# Altium schematic symbol library Control_Board_Model.SCHLIB: 226 symbols (part 4 of 7)
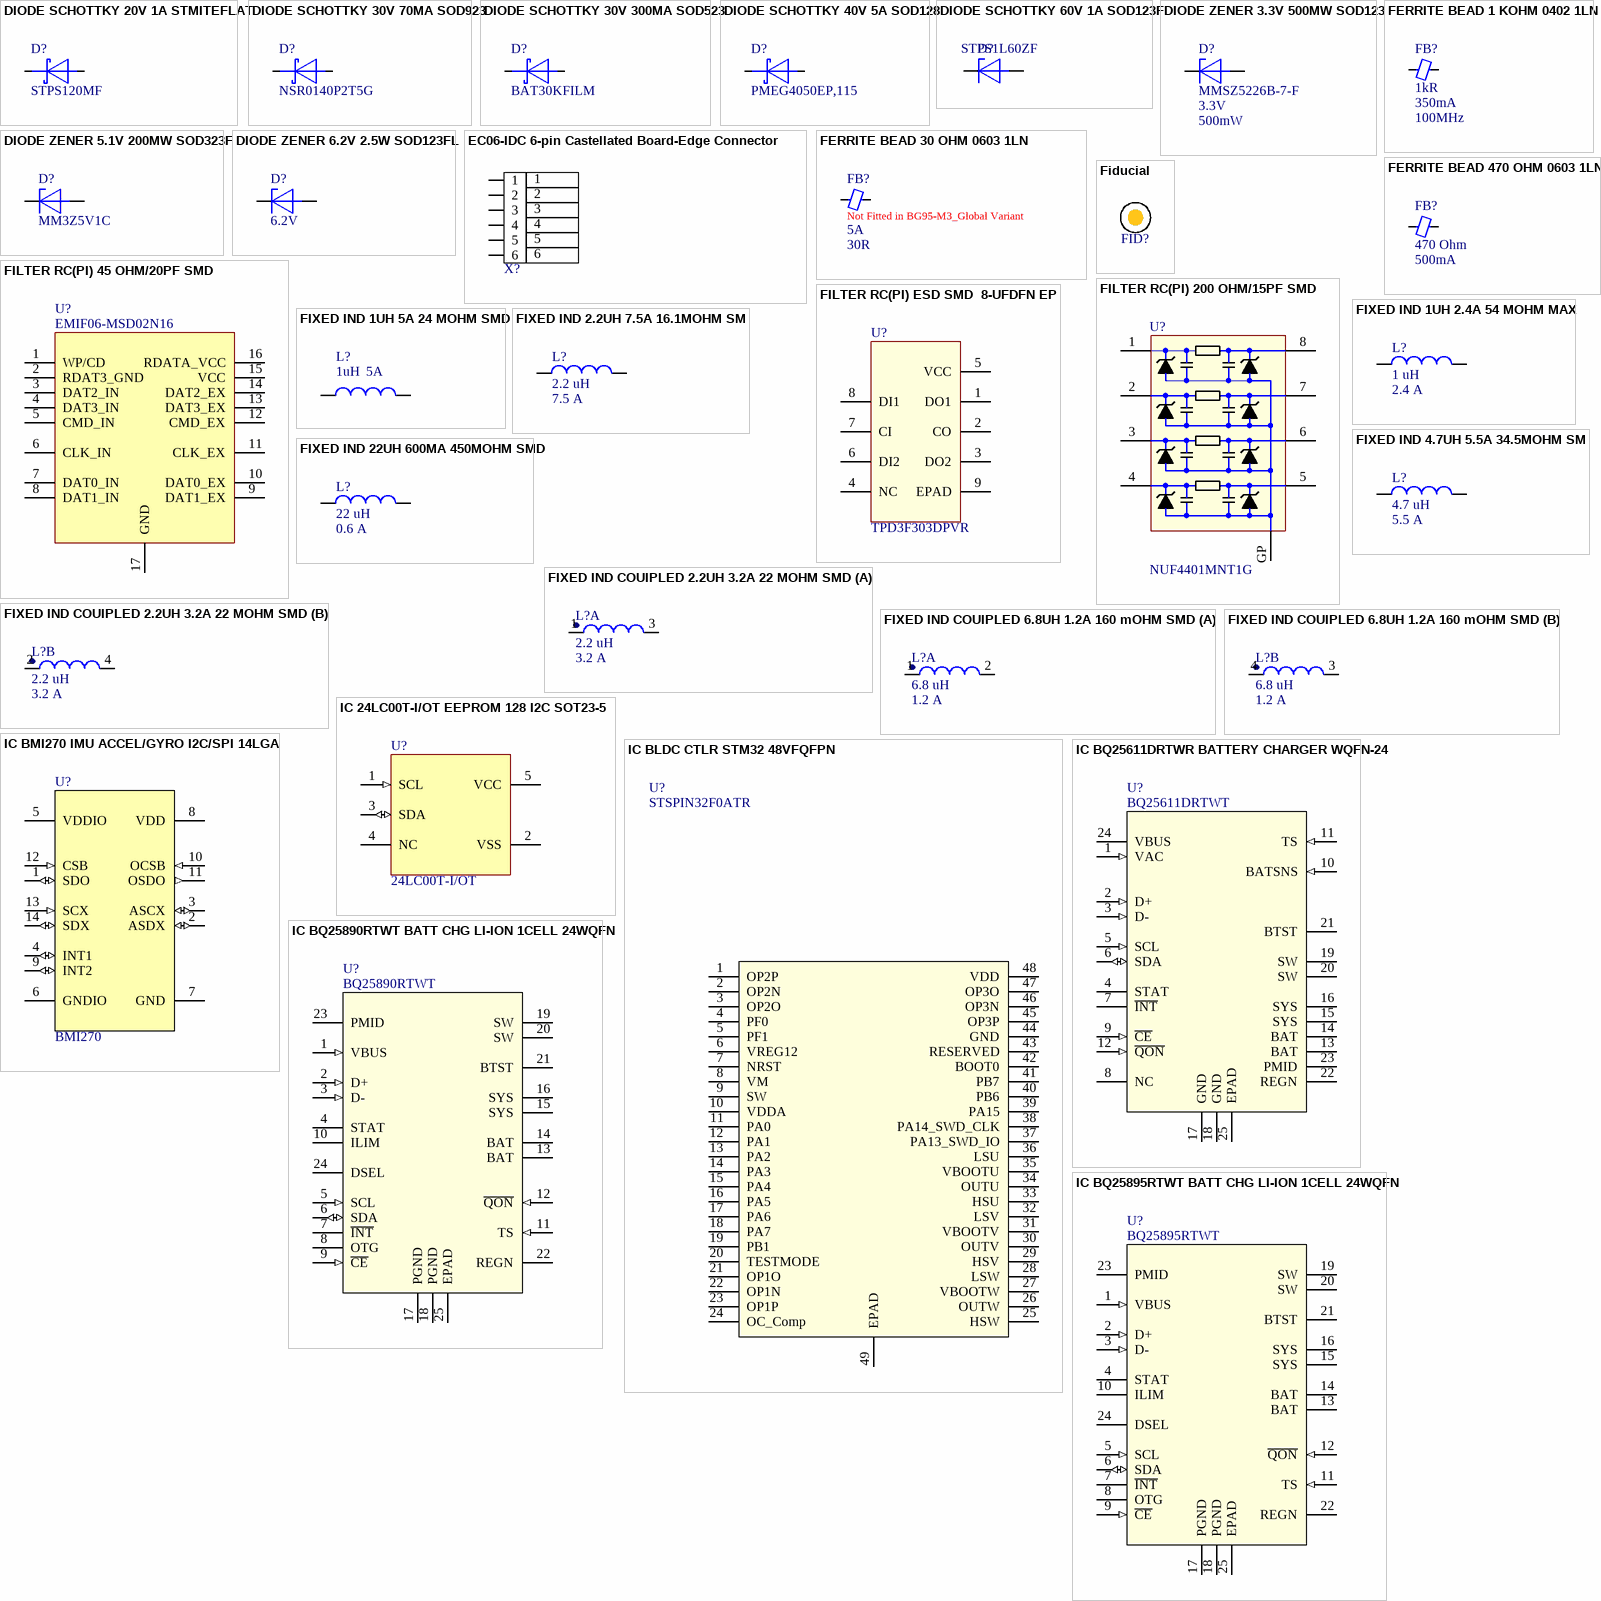
[diagram p10: symbols DIODE SCHOTTKY 20V 1A STMITEFLAT to IC BQ25895RTWT BATT CHG LI-ION 1CELL 24WQFN]

## FIXED IND COUIPLED 2.2UH 3.2A 22 MOHM SMD
designator L?  Inductance: 2.2 uH  Maximum DC Current: 3.2 A  (hidden comment: FIXED IND COUIPLED 2.2UH 3.2A 22 MOHM SMD)
2.2µH Shielded Coupled Inductors 3.2A 22mOhm Max 4040 (10.3x10.3 Metric); Manufacturer: Coilcraft; Manufacturer Part Number: MSD1048H-222; Tolerance: 30 %; Self Resonant Frequency: 55 MHz; Test Frequency: 100 kHz; Type: SMD Inductor; Packaging: Cut Tape; Shielding: Shielded; ComponentLink1URL: https://www.coilcraft.com/getmedia/492eebb2-11bb-49ba-b07b-44c830c73f93/msd1048h.pdf; ComponentLink1Description: https://www.coilcraft.com/en-us/products/power/coupled-inductors/1-1-shielded-coupled/msd_h/msd1048h/#; Category: Fixed Coupled Inductors; Application: Power; Height: 4.8 mm; Length: 10.3 mm; Maximum DC Resistance: 22 mOhms; Product: Power Inductors; Series: MSD1048H; Termination Style: SMD/SMT; Width: 10.3 mm; Brand: Coilcraft; Mounting Style: PCB Mount; Maximum Operating Temperature: + 125 C; Minimum Operating Temperature: - 40 C; Product Type: Fixed Coupled Inductors; Subcategory: Inductors, Chokes & Coils; Termination: -; Minimum Order Quantity: 1; Reeling: True; Mount: Surface Mount
footprint IND_MSD1048H (Footprint not found)
part A pins: 1, 3
part B pins: 2, 4

## FIXED IND COUIPLED 6.8UH 1.2A 160 mOHM SMD
designator L?  Inductance: 6.8 uH  Maximum DC Current: 1.2 A  (hidden comment: FIXED IND COUIPLED 6.8UH 1.2A 160 mOHM SMD)
6.8µH Shielded Coupled Inductors 1.2A 160mOhm Max 1919 (4.8x4.8 Metric); Manufacturer: Coilcraft; Manufacturer Part Number: LPD5030-682MR; Tolerance: 30 %; Self Resonant Frequency: 40 MHz; Test Frequency: 100 kHz; Type: SMD Inductor; Packaging: Cut Tape; Shielding: Shielded; Termination: -; Length: 4.8 mm; Height: 2.9 mm; Width: 4.8 mm; ComponentLink1URL: https://www.coilcraft.com/getmedia/492eebb2-11bb-49ba-b07b-44c830c73f93/msd1048h.pdf; ComponentLink1Description: https://www.coilcraft.com/en-us/products/power/coupled-inductors/1-1-shielded-coupled/msd_h/msd1048h/#; Category: Fixed Coupled Inductors; Application: Power; Maximum DC Resistance: 160 mOhms; Product: Power Inductors; Series: LPD5030; Termination Style: SMD/SMT; Brand: Coilcraft; Mounting Style: PCB Mount; Maximum Operating Temperature: + 125 C; Minimum Operating Temperature: - 40 C; Product Type: Fixed Coupled Inductors; Subcategory: Inductors, Chokes & Coils; Minimum Order Quantity: 1; Reeling: True; Mount: Surface Mount
footprint IND_LPD5030 (Footprint not found)
part A pins: 1, 2
part B pins: 3, 4

## IC 24LC00T-I/OT EEPROM 128 I2C SOT23-5
designator U?, comment 24LC00T-I/OT
EEPROM Memory IC 128b (16 x 8) I²C 400kHz 3500ns SOT-23-5; Manufacturer: Microchip; Min Supply Voltage: 2.5V; Max Supply Voltage: 5.5V; Interface: I2C,2-Wire,Serial; Access Time: 900ns; Nominal Supply Current: 2mA; Supplier 1: Digi-Key; Manufacturer Part Number: 24LC00T-I/OT; Stock 1: 29747; Pricing 1: 1=0.19, 100=0.1785 (USD); Mount: Surface Mount; Case/Package: SOT-23; Number of Pins: 5; Contact Plating: Tin,Matte; Min Operating Temperature: -40°C; Max Operating Temperature: 85°C; Density: 128b; Frequency: 400kHz; Packaging: Tape and Reel; Package Quantity: 3000; Memory Type: EEPROM; Memory Size: 128b; Max Frequency: 400kHz; Length: 3.1mm; Height: 1.3mm; Width: 1.8mm; Radiation Hardening: No; REACH SVHC: No SVHC; Lead Free: Lead Free; ComponentLink1URL: http://www.farnell.com/datasheets/1669367.pdf?src-supplier=Element14; ComponentLink1Description: http://www.farnell.com/datasheets/1669367.pdf?src-supplier=Element14; ComponentLink2URL: http://ww1.microchip.com/downloads/en/DeviceDoc/21178H.pdf?src-supplier=Avnet+Europe; ComponentLink2Description: http://ww1.microchip.com/downloads/en/DeviceDoc/21178H.pdf?src-supplier=Avnet+Europe; ComponentLink3URL: http://www.microchip.com/mymicrochip/filehandler.aspx?ddocname=en011773&src-supplier=Future+Electronics; ComponentLink3Description: http://www.microchip.com/mymicrochip/filehandler.aspx?ddocname=en011773&src-supplier=Future+Electronics; ComponentLink4URL: https://www.distrelec.biz/Web/Downloads/_t/ds/24AA00_24LC00_24C00_eng_tds.pdf?mime=application%2Fpdf&src-supplier=Distrelec; ComponentLink4Description: https://www.distrelec.biz/Web/Downloads/_t/ds/24AA00_24LC00_24C00_eng_tds.pdf?mime=application%2Fpdf&src-supplier=Distrelec; ComponentLink5URL: https://www.verical.com/server-webapp/html/getDatasheet?partID=790518&src-supplier=Verical; ComponentLink5Description: https://www.verical.com/server-webapp/html/getDatasheet?partID=790518&src-supplier=Verical; ComponentLink6URL: http://www.produktinfo.conrad.com/datenblaetter/1000000-1099999/001085284-da-01-en-IC_EEPROM_128B_24LC00T_I_OT_SOT_23_5_MCP.pdf?src-supplier=Conrad; ComponentLink6Description: http://www.produktinfo.conrad.com/datenblaetter/1000000-1099999/001085284-da-01-en-IC_EEPROM_128B_24LC00T_I_OT_SOT_23_5_MCP.pdf?src-supplier=Conrad; Supplier Part Number 1: 24LC00T-I/OTCT-ND
footprint SOT-23-5
pins: 1 SCL (in), 2 VSS (power), 3 SDA (io), 4 NC, 5 VCC (power)

## IC BLDC CTLR STM32 48VFQFPN
designator U?, comment STSPIN32F0ATR
Multiphase Motor Driver Power MOSFET Analog, I²C, PWM 48VFQFPN; Manufacturer: STMicroelectronics; Number of Outputs: 3 Output; Operating Frequency: 100 kHz; Output Voltage: 3.3 V; Operating Supply Current: 5 mA; Operating Supply Voltage: 6.7 V to 45 V; Manufacturer Part Number: STSPIN32F0ATR; RoHS: RoHS Compliant; Category: Motor / Motion / Ignition Controllers & Drivers; Stock 1: 2979; Features: Buck Step Down Converter, Initial Position Detect (IPD), Rotor Lock Protection, SPI/I2C, Integrated; Operating Temperature Range: - 40 C to + 125 C; Package / Case: 48VFQFPN; Packaging: Cut Tape; Product: Brushless DC Motor Controllers; Series: STSPIN32; Type: Half Bridge; Brand: STMicroelectronics; Mount: Surface Mount; Maximum Operating Temperature: + 125 C; Minimum Operating Temperature: - 40 C; Moisture Sensitive: Yes; Product Type: Motor / Motion / Ignition Controllers & Drivers; Standard Pack Qty: 3000; Subcategory: PMIC - Power Management ICs; RoHS - Mouser: Y; Minimum Order Quantity: 1; Reeling: True; Supplier 1: Digi-Key; Supplier Part Number 1: 497-19688-1-ND
footprint VFQFPN-48
pins: 1 OP2P, 2 OP2N, 3 OP2O, 4 PF0, 5 PF1, 6 VREG12, 7 NRST, 8 VM, 9 SW, 10 VDDA, 11 PA0, 12 PA1, 13 PA2, 14 PA3, 15 PA4, 16 PA5, 17 PA6, 18 PA7, 19 PB1, 20 TESTMODE, 21 OP1O, 22 OP1N, 23 OP1P, 24 OC_Comp, 25 HSW, 26 OUTW, 27 VBOOTW, 28 LSW, 29 HSV, 30 OUTV, 31 VBOOTV, 32 LSV, 33 HSU, 34 OUTU, 35 VBOOTU, 36 LSU, 37 PA13_SWD_IO, 38 PA14_SWD_CLK, 39 PA15, 40 PB6, 41 PB7, 42 BOOT0, 43 RESERVED, 44 GND, 45 OP3P, 46 OP3N, 47 OP3O, 48 VDD, 49 EPAD

## IC BMI270 IMU ACCEL/GYRO I2C/SPI 14LGA
designator U?, comment BMI270
Accelerometer, Gyroscope, 6 Axis Sensor I²C, SPI Output; Manufacturer: Bosch Sensortec; Supplier 1: Digi-Key; Manufacturer Part Number: BMI270; Stock 1: 0; Pricing 1: 1=5.75, 5=5.07, 10=4.478, 25=3.6336, 50=3.211, 100=3.1265, 500=2.6195, 1000=2.4505 (USD); Supplier Part Number 1: 828-1091-1-ND
footprint XDCR_BMI270
pins: 1 SDO (io), 2 ASDX (io), 3 ASCX (io), 4 INT1 (io), 5 VDDIO (power), 6 GNDIO (power), 7 GND (power), 8 VDD (power), 9 INT2 (io), 10 OCSB (in), 11 OSDO (out), 12 CSB (in), 13 SCX (in), 14 SDX (io)

## IC BQ25611DRTWR BATTERY CHARGER WQFN-24
designator U?, comment BQ25611DRTWT
Charger IC Lithium Ion/Polymer 24-WQFN (4x4); Manufacturer: Texas Instruments; Product Status: New Product; Supplier 1: Mouser; Manufacturer Part Number: BQ25611DRTWT; RoHS: RoHS Compliant; Category: Battery Management; Stock 1: 208; Pricing 1: 1=4.41, 10=3.96, 100=3.34, 250=2.91, 500=2.76, 1000=2.33, 2500=2.21, 5000=2.13 (USD); Packaging: Cut Tape; Brand: Texas Instruments; Moisture Sensitive: Yes; Product Type: Battery Management; Standard Pack Qty: 250; Subcategory: PMIC - Power Management ICs; RoHS - Mouser: Y; Minimum Order Quantity: 1; Reeling: True; ComponentLink1URL: https://www.ti.com/lit/gpn/bq25611d; ComponentLink1Description: Data sheet; Supplier Part Number 1: 595-BQ25611DRTWT; Mount: Surface Mount
footprint RTW0024 (WQFN24 Plastic Quad Flatpack No-Lead)
pins: 1 VAC (in), 2 D+ (in), 3 D- (in), 4 STAT (oc), 5 SCL (in), 6 SDA (io), 7 ~{INT} (oc), 8 NC, 9 ~{CE} (in), 10 BATSNS (in), 11 TS (in), 12 ~{QON} (in), 13 BAT (power), 14 BAT (power), 15 SYS (power), 16 SYS (power), 17 GND (power), 18 GND (power), 19 SW (power), 20 SW (power), 21 BTST (power), 22 REGN (power), 23 PMID (power), 24 VBUS (power), 25 EPAD (power)

## IC BQ25890RTWT BATT CHG LI-ION 1CELL 24WQFN
designator U?, comment BQ25890RTWT
Charger IC Lithium Ion/Polymer 24WQFN; Manufacturer: Texas Instruments; Product Status: New Product; Manufacturer Part Number: BQ25890RTWT; RoHS: RoHS Compliant; Category: Battery Management; Stock 1: 208; Pricing 1: 1=4.41, 10=3.96, 100=3.34, 250=2.91, 500=2.76, 1000=2.33, 2500=2.21, 5000=2.13 (USD); Packaging: Cut Tape; Brand: Texas Instruments; Moisture Sensitive: Yes; Product Type: Battery Management; Standard Pack Qty: 250; Subcategory: PMIC - Power Management ICs; RoHS - Mouser: Y; Minimum Order Quantity: 1; Reeling: True; ComponentLink1URL: https://www.digikey.com/en/products/detail/texas-instruments/BQ25890HRTWT/6217606; ComponentLink1Description: https://www.digikey.com/en/products/detail/texas-instruments/BQ25890HRTWT/6217606; Supplier Part Number 1: 296-44881-2-ND; Mount: Surface Mount
footprint WQFN-24 (WQFN24 Plastic Quad Flatpack No-Lead)
pins: 1 VBUS (in), 2 D+ (in), 3 D- (in), 4 STAT (oc), 5 SCL (in), 6 SDA (io), 7 ~{INT} (oc), 8 OTG, 9 ~{CE} (in), 10 ILIM, 11 TS (in), 12 ~{QON} (in), 13 BAT (power), 14 BAT (power), 15 SYS (power), 16 SYS (power), 17 PGND (power), 18 PGND (power), 19 SW (power), 20 SW (power), 21 BTST (power), 22 REGN (power), 23 PMID (power), 24 DSEL, 25 EPAD (power)

## IC BQ25895RTWT BATT CHG LI-ION 1CELL 24WQFN
designator U?, comment BQ25895RTWT
Charger IC Lithium Ion/Polymer 24WQFN (4x4); Manufacturer: Texas Instruments; Product Status: New Product; Manufacturer Part Number: BQ25895RTWT; RoHS: RoHS Compliant; Category: Battery Management; Stock 1: 208; Pricing 1: 1=4.41, 10=3.96, 100=3.34, 250=2.91, 500=2.76, 1000=2.33, 2500=2.21, 5000=2.13 (USD); Packaging: Cut Tape; Brand: Texas Instruments; Moisture Sensitive: Yes; Product Type: Battery Management; Standard Pack Qty: 250; Subcategory: PMIC - Power Management ICs; RoHS - Mouser: Y; Minimum Order Quantity: 1; Reeling: True; ComponentLink1URL: https://www.digikey.com/en/products/detail/texas-instruments/BQ25895RTWT/5218154; ComponentLink1Description: https://www.digikey.com/en/products/detail/texas-instruments/BQ25895RTWT/5218154; Supplier Part Number 1: 296-41132-2-ND; Mount: Surface Mount
footprint WQFN-24 (WQFN24 Plastic Quad Flatpack No-Lead)
pins: 1 VBUS (in), 2 D+ (in), 3 D- (in), 4 STAT (oc), 5 SCL (in), 6 SDA (io), 7 ~{INT} (oc), 8 OTG, 9 ~{CE} (in), 10 ILIM, 11 TS (in), 12 ~{QON} (in), 13 BAT (power), 14 BAT (power), 15 SYS (power), 16 SYS (power), 17 PGND (power), 18 PGND (power), 19 SW (power), 20 SW (power), 21 BTST (power), 22 REGN (power), 23 PMID (power), 24 DSEL, 25 EPAD (power)

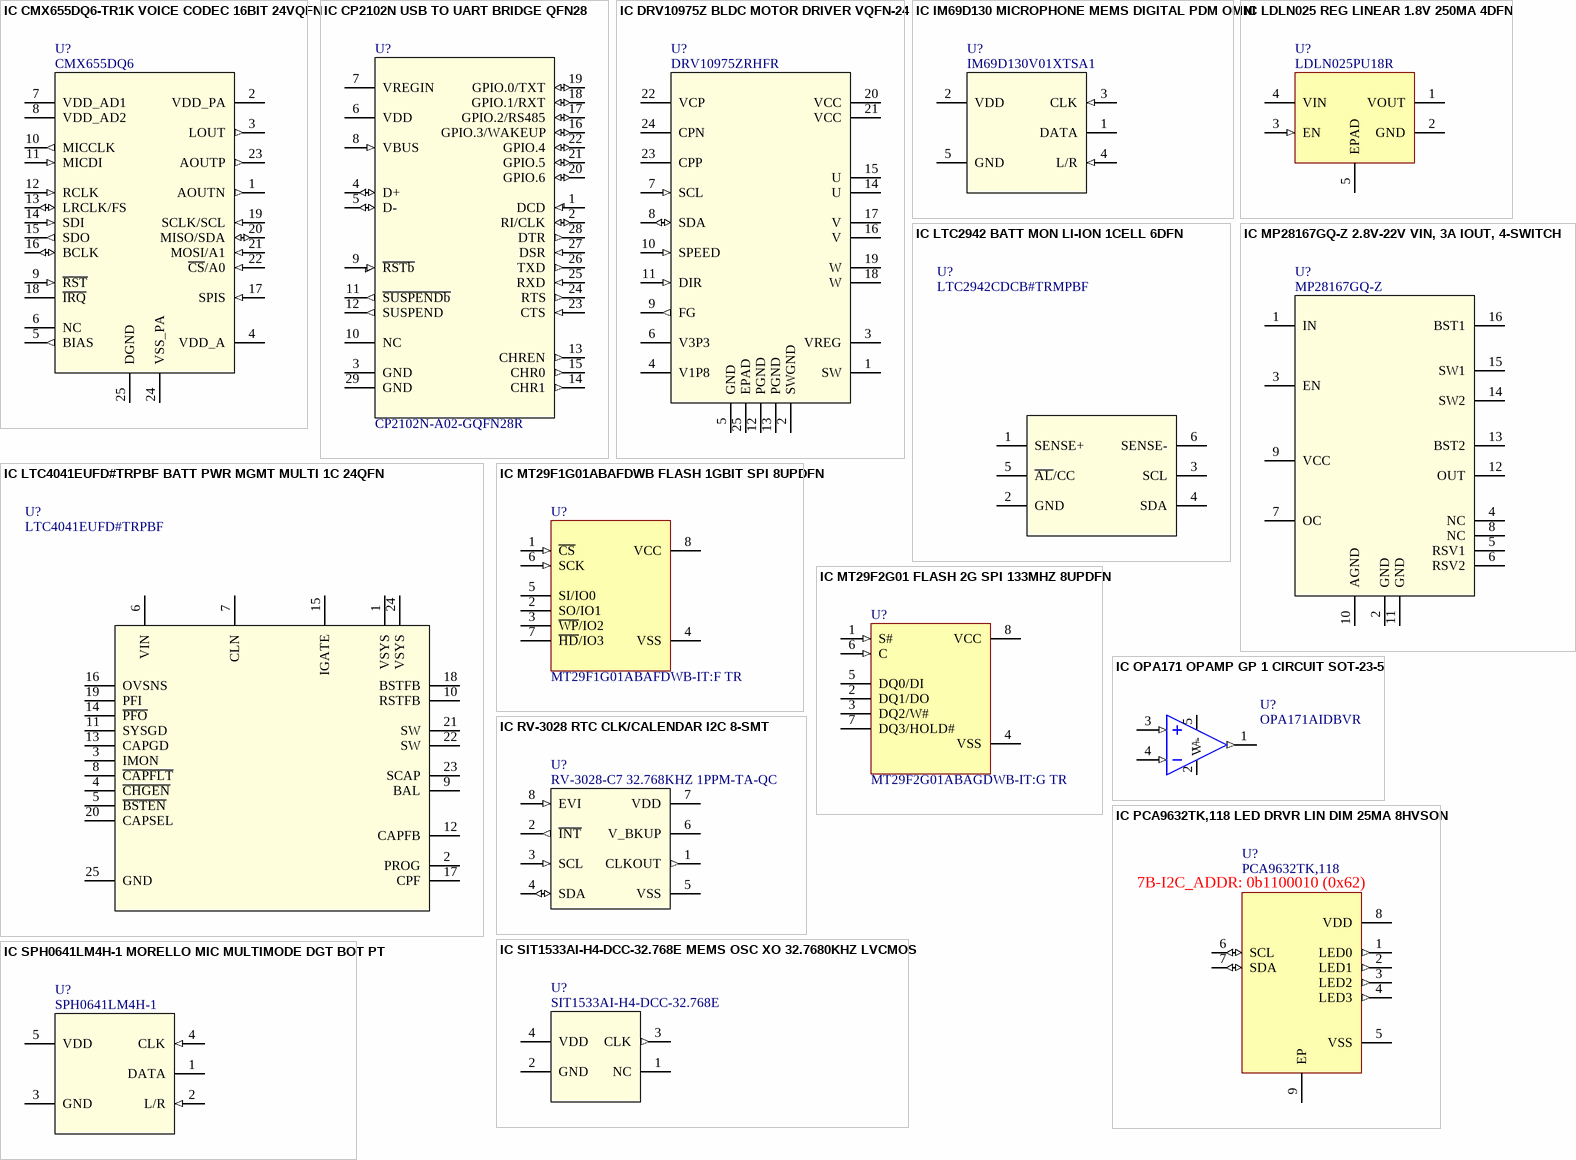
[diagram p3: symbols IC CMX655DQ6-TR1K VOICE CODEC 16BIT 24VQFN to IC SPH0641LM4H-1 MORELLO MIC MULTIMODE DGT BOT PT]

## IC CMX655DQ6-TR1K VOICE CODEC 16BIT 24VQFN
designator U?, comment CMX655DQ6
Voice-Band Interface 16 b I²S, PCM, SPI 24-VQFN (4x4); Manufacturer: CML Microcircuits; Supplier 1: Mouser; Manufacturer Part Number: CMX655DQ6; Stock 1: 164; Pricing 1: 1=1.41, 10=1.41, 50=1.36, 100=1.22, 1000=1.07, 10000=1.01 (USD); Mount: Surface Mount; Case/Package: VQFN; Packaging: Cut Tape; ComponentLink1URL: https://www.cmlmicro.com/wp-content/uploads/2018/10/CMX655_ds.pdf?src-supplier=Digi-Key; ComponentLink1Description: https://www.cmlmicro.com/wp-content/uploads/2018/10/CMX655_ds.pdf?src-supplier=Digi-Key; Supplier Part Number 1: 226-CMX655DQ6; Supplier 2: Digi-Key; Supplier Part Number 2: 2032-1036-1-ND
footprint QFN50P400X400X100_HS-25N (QFN, 24-Leads, Body 4.00x4.00mm, Pitch 0.50mm, Thermal Pad 2.68x2.68mm, IPC Medium Density)
pins: 1 AOUTN (out), 2 VDD_PA (power), 3 LOUT (out), 4 VDD_A (power), 5 BIAS (out), 6 NC, 7 VDD_AD1 (power), 8 VDD_AD2 (power), 9 ~{RST} (in), 10 MICCLK (out), 11 MICDI (in), 12 RCLK (in), 13 LRCLK/FS (io), 14 SDI (in), 15 SDO (out), 16 BCLK (io), 17 SPIS (in), 18 ~{IRQ} (oc), 19 SCLK/SCL (in), 20 MISO/SDA (io), 21 MOSI/A1 (in), 22 ~{CS}/A0 (in), 23 AOUTP (out), 24 VSS_PA (power), 25 DGND (power)

## IC CP2102N USB TO UART BRIDGE QFN28
designator U?, comment CP2102N-A02-GQFN28R
USB Bridge, USB to UART USB 2.0 UART Interface 28-QFN (5x5); Manufacturer: Silicon Labs; Supplier 1: Digi-Key; Manufacturer Part Number: CP2102N-A02-GQFN28R; Stock 1: 3461; Pricing 1: 1=1.4, 25=1.3516, 100=1.2995 (USD); Supplier Part Number 1: 336-5890-1-ND; ComponentLink1URL: https://4donline.ihs.com/images/VipMasterIC/IC/SILC/SILC-S-A0007770867/SILC-S-A0007770867-1.pdf?hkey=6D3A4C79FDBF58556ACFDE234799DDF0&src-supplier=Farnell; ComponentLink1Description: https://4donline.ihs.com/images/VipMasterIC/IC/SILC/SILC-S-A0007770867/SILC-S-A0007770867-1.pdf?hkey=6D3A4C79FDBF58556ACFDE234799DDF0&src-supplier=Farnell; Mount: Surface Mount
footprint QFN28_5X5
pins: 1 DCD (in), 2 RI/CLK (io), 3 GND (power), 4 D+ (io), 5 D- (io), 6 VDD (power), 7 VREGIN (power), 8 VBUS (in), 9 ~{RSTb} (in), 10 NC, 11 ~{SUSPENDb} (out), 12 SUSPEND (out), 13 CHREN (out), 14 CHR1 (out), 15 CHR0 (out), 16 GPIO.3/WAKEUP (io), 17 GPIO.2/RS485 (io), 18 GPIO.1/RXT (io), 19 GPIO.0/TXT (io), 20 GPIO.6 (io), 21 GPIO.5 (io), 22 GPIO.4 (io), 23 CTS (in), 24 RTS (out), 25 RXD (in), 26 TXD (out), 27 DSR (in), 28 DTR (out), 29 GND (power)

## IC DRV10975Z BLDC MOTOR DRIVER VQFN-24
designator U?, comment DRV10975ZRHFR
Multiphase Motor Driver Power MOSFET Analog, I²C, PWM 24-VQFN (5x4); Manufacturer: Texas Instruments; Number of Outputs: 3 Output; Operating Frequency: 100 kHz; Output Current: 1.5 A; Output Voltage: 19 V; Development Kit: DRV10975EVM; Operating Supply Current: 5 mA; Operating Supply Voltage: 6.5 V to 18 V; Manufacturer Part Number: DRV10975ZRHFR; RoHS: RoHS Compliant; Category: Motor / Motion / Ignition Controllers & Drivers; Stock 1: 2979; Pricing 1: 1=2.73, 10=2.31, 100=1.85, 250=1.62, 500=1.58, 1000=1.25, 3000=1.21, 6000=1.16, 9000=1.14 (USD); Features: Buck Step Down Converter, Initial Position Detect (IPD), Rotor Lock Protection, SPI/I2C, Integrated; Operating Temperature Range: - 40 C to + 125 C; Package / Case: VQFN-24; Packaging: Cut Tape; Product: Brushless DC Motor Controllers; Series: DRV10975; Type: Half Bridge; Brand: Texas Instruments; Mount: Surface Mount; Maximum Operating Temperature: + 125 C; Minimum Operating Temperature: - 40 C; Moisture Sensitive: Yes; Product Type: Motor / Motion / Ignition Controllers & Drivers; Standard Pack Qty: 3000; Subcategory: PMIC - Power Management ICs; RoHS - Mouser: Y; Minimum Order Quantity: 1; Reeling: True; Supplier 1: Digi-Key; Supplier Part Number 1: 296-50214-1-ND
footprint RHF24_2P65X3P65 (Plastic Quad Flatpack No-Lead)
pins: 1 SW (power), 2 SWGND (power), 3 VREG (power), 4 V1P8 (power), 5 GND (power), 6 V3P3 (power), 7 SCL (in), 8 SDA (io), 9 FG (out), 10 SPEED (in), 11 DIR (in), 12 PGND (power), 13 PGND (power), 14 U (power), 15 U (power), 16 V (power), 17 V (power), 18 W (power), 19 W (power), 20 VCC (power), 21 VCC (power), 22 VCP (power), 23 CPP (power), 24 CPN (power), 25 EPAD (power)

## IC IM69D130 MICROPHONE MEMS DIGITAL PDM OMNI
designator U?, comment IM69D130V01XTSA1
20Hz ~ 20kHz Digital, PDM Microphone MEMS (Silicon) 1.62V ~ 3.6V Omnidirectional (-36dB ±1dB @ 94dB SPL) Solder Pads; Manufacturer: Infineon; Shape: Rectangular; Max Frequency: 3.3MHz; Operating Supply Voltage: -3.6V; Operating Supply Current: 1.3mA; Supplier 1: Digi-Key; Manufacturer Part Number: IM69D130V01XTSA1; Stock 1: 16861; Pricing 1: 1=1.76, 10=1.458, 25=1.3476, 50=1.2674, 100=1.19, 500=1.0214 (USD); Output Type: Digital; Direction: Omnidirectional; Packaging: Cut Tape; Termination: Solder; Lead Free: Lead Free; Halogen Free: Halogen Free; RoHS Compliant: Yes; ComponentLink1URL: http://www.farnell.com/datasheets/2718732.pdf?src-supplier=Newark; ComponentLink1Description: http://www.farnell.com/datasheets/2718732.pdf?src-supplier=Newark; ComponentLink2URL: https://www.infineon.com/dgdl/Infineon-IM69D130-DS-v01_00-EN.pdf?fileId=5546d462602a9dc801607a0e46511a2e&src-supplier=Digi-Key; ComponentLink2Description: https://www.infineon.com/dgdl/Infineon-IM69D130-DS-v01_00-EN.pdf?fileId=5546d462602a9dc801607a0e46511a2e&src-supplier=Digi-Key; ComponentLink3URL: http://www.farnell.com/datasheets/2718732.pdf?src-supplier=Farnell; ComponentLink3Description: http://www.farnell.com/datasheets/2718732.pdf?src-supplier=Farnell; Supplier Part Number 1: IM69D130V01XTSA1CT-ND
footprint MIC_IM69D130V01XTSA1
pins: 1 DATA (hiz), 2 VDD (power), 3 CLK (in), 4 L/R (in), 5 GND (power)

## IC LDLN025 REG LINEAR 1.8V 250MA 4DFN
designator U?, comment LDLN025PU18R
Linear Voltage Regulator IC 1 Output 250mA 4-DFN (1x1); Manufacturer: STMicroelectronics; Dropout Voltage: 250mV; Number of Regulators: 1; Quiescent Current: 25uA; Output Type: Fixed; Output Configuration: Positive; Max Input Voltage: 5.5V; Min Output Voltage: 1.8V; Max Supply Current: 425uA; Power Supply Rejection Ratio (PSRR): 60dB; Supplier 1: Digi-Key; Manufacturer Part Number: LDLN025PU18R; Stock 1: 4322; Pricing 1: 1=0.61, 10=0.525, 25=0.49, 100=0.364, 250=0.308, 500=0.294, 1000=0.217, 2500=0.203 (USD); Mount: Surface Mount; Min Operating Temperature: -40°C; Max Operating Temperature: 125°C; Packaging: Tape and Reel; Output Current: 250mA; ComponentLink1URL: http://www.st.com/content/ccc/resource/technical/document/datasheet/group3/a7/8d/6a/ac/ed/d0/4f/f4/DM00312779/files/DM00312779.pdf/jcr:content/translations/en.DM00312779.pdf?src-supplier=Digi-Key; ComponentLink1Description: http://www.st.com/content/ccc/resource/technical/document/datasheet/group3/a7/8d/6a/ac/ed/d0/4f/f4/DM00312779/files/DM00312779.pdf/jcr:content/translations/en.DM00312779.pdf?src-supplier=Digi-Key; Supplier Part Number 1: 497-17000-1-ND; Case/Package: DFN
footprint DFN65P100X40-4N (Footprint not found)
pins: 1 VOUT (power), 2 GND (power), 3 EN (in), 4 VIN (power), 5 EPAD (power)

## IC LTC2942 BATT MON LI-ION 1CELL 6DFN
designator U?, comment LTC2942CDCB#TRMPBF
Battery Battery Monitor IC Lithium Ion 6-DFN (2x3); Manufacturer: Analog Devices Inc.; Product Status: New Product; Manufacturer Part Number: LTC2942CDCB#TRMPBF; RoHS: RoHS Compliant; Category: Battery Management; Stock 1: 208; Pricing 1: 1=4.41, 10=3.96, 100=3.34, 250=2.91, 500=2.76, 1000=2.33, 2500=2.21, 5000=2.13 (USD); Packaging: Cut Tape; Brand: Analog Devices Inc.; Moisture Sensitive: Yes; Product Type: Battery Management; Standard Pack Qty: 250; Subcategory: PMIC - Power Management ICs; RoHS - Mouser: Y; Minimum Order Quantity: 1; Reeling: True; ComponentLink1URL: https://www.digikey.com/en/products/detail/analog-devices-inc/LTC2942CDCB-TRMPBF/2237173; ComponentLink1Description: https://www.digikey.com/en/products/detail/analog-devices-inc/LTC2942CDCB-TRMPBF/2237173; Supplier Part Number 1: LTC2942CDCB#TRMPBFTR-ND; Mount: Surface Mount
footprint DFN6 (6-DFN (2x3))
pins: 1 SENSE+, 2 GND, 3 SCL, 4 SDA, 5 ~{AL}/CC, 6 SENSE-

## IC LTC4041EUFD#TRPBF BATT PWR MGMT MULTI 1C 24QFN
designator U?, comment LTC4041EUFD#TRPBF
Battery Power Management IC Multi-Chemistry 24-QFN (4x5); Manufacturer: Analog Devices Inc.; Product Status: New Product; Manufacturer Part Number: LTC4041EUFD#TRPBF; RoHS: RoHS Compliant; Category: PMIC - Battery Management; Stock 1: 208; Pricing 1: 1=4.41, 10=3.96, 100=3.34, 250=2.91, 500=2.76, 1000=2.33, 2500=2.21, 5000=2.13 (USD); Packaging: Cut Tape; Standard Pack Qty: 2500; Minimum Order Quantity: 1; ComponentLink1URL: https://www.digikey.com/en/products/detail/analog-devices-inc/LTC4041EUFD-TRPBF/9446043; ComponentLink1Description: https://www.digikey.com/en/products/detail/analog-devices-inc/LTC4041EUFD-TRPBF/9446043; Supplier Part Number 1: 161-LTC4041EUFD#TRPBFTR-ND; Mount: Surface Mount
footprint QFN24_4X5
pins: 1 VSYS (power), 2 PROG (power), 3 IMON (power), 4 ~{CHGEN} (power), 5 ~{BSTEN} (power), 6 VIN (power), 7 CLN (power), 8 ~{CAPFLT} (power), 9 BAL (power), 10 RSTFB (power), 11 SYSGD (power), 12 CAPFB (power), 13 CAPGD (power), 14 ~{PFO} (power), 15 IGATE (power), 16 OVSNS (power), 17 CPF (power), 18 BSTFB (power), 19 PFI (power), 20 CAPSEL (power), 21 SW (power), 22 SW (power), 23 SCAP (power), 24 VSYS (power), 25 GND (power)

## IC MP28167GQ-Z 2.8V-22V VIN, 3A IOUT, 4-SWITCH
designator U?, comment MP28167GQ-Z
Buck-Boost Switching Regulator IC Positive Fixed 5V 1 Output 3A 16-PowerVFQFN; Manufacturer: Monolithic Power Systems Inc.; Product Status: New Product; Supplier 1: Mouser; Manufacturer Part Number: MP28167GQ-Z; RoHS: RoHS Compliant; Category: PMIC - Voltage Regulators - DC DC Switching Regulators; Stock 1: 208; Pricing 1: 1=4.41, 10=3.96, 100=3.34, 250=2.91, 500=2.76, 1000=2.33, 2500=2.21, 5000=2.13 (USD); Packaging: Cut Tape; Brand: Monolithic Power Systems Inc.; Standard Pack Qty: 5000; Subcategory: PMIC - Voltage Regulators - DC DC Switching Regulators; Minimum Order Quantity: 1; ComponentLink1URL: https://www.monolithicpower.com/en/documentview/productdocument/index/version/2/document_type/Datasheet/lang/en/sku/MP28167GQ/document_id/4000/; ComponentLink1Description: Data sheet; Supplier Part Number 1: 1589-MP28167GQ-ZTR-ND; Mount: Surface Mount
footprint QFN16_3X3
pins: 1 IN (power), 2 GND (power), 3 EN (power), 4 NC (power), 5 RSV1 (power), 6 RSV2 (power), 7 OC (power), 8 NC (power), 9 VCC (power), 10 AGND (power), 11 GND (power), 12 OUT (power), 13 BST2 (power), 14 SW2 (power), 15 SW1 (power), 16 BST1 (power)

## IC MT29F1G01ABAFDWB FLASH 1GBIT SPI 8UPDFN
designator U?, comment MT29F1G01ABAFDWB-IT:F TR
FLASH - NAND Memory IC 1Gb (1G x 1) SPI   8-U-PDFN (8x6); Manufacturer: Micron Technology; Memory Type: FLASH,NAND; Interface: SPI,Serial; Manufacturer Part Number: MT29F1G01ABAFDWB-IT:F TR; Supplier 1: Digi-Key; Stock 1: 2188; Pricing 1: 1=2.68, 10=2.414, 25=2.3768, 50=2.3704, 100=2.1181, 250=2.0485, 500=2.041, 1000=1.9006 (USD); Min Operating Temperature: -40°C; Max Operating Temperature: 85°C; Packaging: Tape and Reel; Supplier Part Number 1: 557-1654-1-ND; Number of Pins: 8
footprint U-PDFN-8_8X6_P127
pins: 1 ~{CS} (in), 2 SO/IO1, 3 ~{WP}/IO2, 4 VSS, 5 SI/IO0, 6 SCK (in), 7 ~{HD}/IO3, 8 VCC

## IC MT29F2G01 FLASH 2G SPI 133MHZ 8UPDFN
designator U?, comment MT29F2G01ABAGDWB-IT:G TR
FLASH - NAND Memory IC 2Gb (2G x 1) SPI 8-U-PDFN (8x6); Manufacturer: Micron Technology; Memory Type: Non-Volatile,FLASH; Frequency: 133MHz; Manufacturer Part Number: MT29F2G01ABAGDWB-IT:G TR; Supplier 1: Digi-Key; Stock 1: 4000; Pricing 1: 1=3.45, 10=3.129, 25=3.0612, 50=3.0442, 100=2.7301, 250=2.72, 500=2.6198, 1000=2.4908 (USD); Mount: Surface Mount; Min Operating Temperature: -40°C; Max Operating Temperature: 85°C; Packaging: Cut Tape; Memory Size: 2Gb; ComponentLink1URL: https://www.digikey.com/en/products/detail/micron-technology-inc/MT29F2G01ABAGDWB-IT-G-TR/6136124; ComponentLink1Description: https://www.digikey.com/en/products/detail/micron-technology-inc/MT29F2G01ABAGDWB-IT-G-TR/6136124; Supplier Part Number 1: 557-1664-1-ND
footprint U-PDFN-8_8X6_P127
pins: 1 S# (in), 2 DQ1/DO, 3 DQ2/W#, 4 VSS, 5 DQ0/DI, 6 C (in), 7 DQ3/HOLD#, 8 VCC

## IC OPA171 OPAMP GP 1 CIRCUIT SOT-23-5
designator U?, comment OPA171AIDBVR
General Purpose Amplifier 1 Circuit Rail-to-Rail SOT-23-5; Manufacturer: Texas Instruments; Min Supply Voltage: 2.7V; Max Supply Voltage: 36V; Min Dual Supply Voltage: 1.35V; Max Dual Supply Voltage: 18V; Voltage Gain: 130dB; Output Current: 25mA; Nominal Supply Current: 475uA; Unity Gain Bandwidth Product: 3MHz; Common Mode Rejection Ratio: 104dB; Number of Channels: 1; Slew Rate: 1.5V/µs; Max I/O Voltage: 1.8mV; Input Bias Current: 15pA; Input Offset Voltage (Vos): 250uV; Output Current per Channel: 35mA; Power Supply Rejection Ratio (PSRR): 120dB; ComponentLink1URL: http://www.ti.com/lit/ds/symlink/opa171.pdf?src-supplier=Digi-Key; ComponentLink1Description: http://www.ti.com/lit/ds/symlink/opa171.pdf?src-supplier=Digi-Key; Supplier 1: Digi-Key; Manufacturer Part Number: OPA171AIDBVR; Stock 1: 126525; Pricing 1: 1=1.36, 10=1.215, 100=0.9476, 500=0.7828, 1000=0.618 (USD); Case/Package: SOT-23-5; Number of Pins: 5; Contact Plating: Gold; Min Operating Temperature: -40°C; Max Operating Temperature: 125°C; Package Quantity: 3000; Packaging: Tape and Reel; Nominal Gain Bandwidth Product: 3MHz; Number of Circuits: 1; Gain Bandwidth Product: 3MHz; Operating Supply Current: 475uA; Number of Elements: 1; Bandwidth: 3MHz; Number of Amplifiers: 1; Operating Supply Voltage: 18V; Radiation Hardening: No; REACH SVHC: No SVHC; Lead Free: Lead Free; Supplier Part Number 1: 296-37698-1-ND; Mount: Surface Mount
footprint SOT-23-5
pins: 1 OUT (out), 2 V- (power), 3 IN+ (in), 4 IN- (in), 5 V+ (power)

## IC PCA9632TK,118 LED DRVR LIN DIM 25MA 8HVSON
designator U?, comment PCA9632TK,118  7B-I2C_ADDR: 0b1100010 (0x62)
LED Driver IC 4 Output Power Switch  PWM Dimming 25mA 8-HVSON (3x3); Manufacturer: NXP Semiconductors; Max Supply Voltage: 5.5V; Min Supply Voltage: 2.3V; Nominal Supply Current: 150uA; Max Power Dissipation: 400mW; Number of Outputs: 4; Frequency: 400kHz; Max Supply Current: 108uA; Low Level Output Current: 100mA; Supplier 1: Digi-Key; Supplier Part Number 1: 568-8715-1-ND; ComponentLink1Description: http://www.nxp.com/documents/data_sheet/PCA9632.pdf?src-supplier=Digi-Key; ComponentLink1URL: http://www.nxp.com/documents/data_sheet/PCA9632.pdf?src-supplier=Digi-Key; ComponentLink2Description: https://www.nxp.com/docs/en/brochure/75016950.pdf?src-supplier=Digi-Key; ComponentLink2URL: https://www.nxp.com/docs/en/brochure/75016950.pdf?src-supplier=Digi-Key; ComponentLink3Description: http://www.classic.nxp.com/documents/data_sheet/PCA9632.pdf?src-supplier=Avnet+Europe; ComponentLink3URL: http://www.classic.nxp.com/documents/data_sheet/PCA9632.pdf?src-supplier=Avnet+Europe; Manufacturer Part Number: PCA9632TK,118; Stock 1: 2394; Pricing 1: 1=1.33, 10=1.192, 25=1.1312, 100=0.8686, 250=0.7676, 500=0.7272, 1000=0.5656, 2500=0.5373 (USD); Mount: Surface Mount; Number of Pins: 8; Contact Plating: Gold; Min Operating Temperature: -40°C; Max Operating Temperature: 85°C; Packaging: Tape and Reel; Package Quantity: 1; Output Voltage: 5.5V; Power Dissipation: 400mW; Number of Segments: 4; Radiation Hardening: No; Lead Free: Lead Free
footprint SOT908-1
pins: 1 LED0 (out), 2 LED1 (out), 3 LED2 (out), 4 LED3 (out), 5 VSS (power), 6 SCL (io), 7 SDA (io), 8 VDD (power), 9 EP (power)

## IC RV-3028 RTC CLK/CALENDAR I2C 8-SMT
designator U?, comment RV-3028-C7 32.768KHZ 1PPM-TA-QC
2-Bit Bidirectional Voltage-Level Translator for Open-Drain Application; Manufacturer: Micro Crystal; Supplier 1: Digi-Key; Manufacturer Part Number: RV-3028-C7 32.768KHZ 1PPM-TA-QC; Stock 1: 4121; Pricing 1: 1=2.71, 10=2.435, 25=2.3016, 100=1.9949, 250=1.8926, 500=1.6982 (USD); Supplier Part Number 1: 2195-RV-3028-C732.768KHZ1PPM-TA-QCCT-ND; Mount: Surface Mount
footprint 8-SON (3.2x1.5) (8-WCDFN)
pins: 1 CLKOUT (out), 2 ~{INT} (out), 3 SCL (in), 4 SDA (io), 5 VSS (power), 6 V_BKUP (power), 7 VDD (power), 8 EVI (in)

## IC SIT1533AI-H4-DCC-32.768E MEMS OSC XO 32.7680KHZ LVCMOS
designator U?  Manufacturer Part Number: SIT1533AI-H4-DCC-32.768E  (hidden comment: IC SIT1533AI-H4-DCC-32.768E MEMS OSC XO 32.7680KHZ LVCMOS)
32.768kHz XO (Standard) LVCMOS Oscillator 1.5V ~ 3.63V  4-SMD, No Lead; Manufacturer: SiTime; Frequency Stability: 100ppm; Max Supply Current: 1.4uA; Load Capacitance: 10pF; Current Rating: 1.35uA; Max Duty Cycle: 52%; Supplier 1: Digi-Key; Stock 1: 89278; Pricing 1: 1=1.1, 10=0.975, 50=0.9116, 100=0.8056, 500=0.7632 (USD); Mount: Surface Mount; Case/Package: SMD/SMT; Number of Pins: 4; Min Operating Temperature: -40°C; Max Operating Temperature: 85°C; Packaging: Tape and Reel; Frequency: 32.768kHz; Termination: SMD/SMT; Min Supply Voltage: 1.5V; Max Supply Voltage: 3.63V; Package Quantity: 1000; Length: 0.079inch; Width: 0.047inch; Height: 0.024inch; RoHS Compliant: Yes; ComponentLink1URL: https://www.sitime.com/datasheet/SiT1533?src-supplier=Digi-Key; ComponentLink1Description: https://www.sitime.com/datasheet/SiT1533?src-supplier=Digi-Key; ComponentLink2URL: http://www.mouser.com/ds/2/371/SiT1533-datasheet-275337.pdf?src-supplier=Mouser; ComponentLink2Description: http://www.mouser.com/ds/2/371/SiT1533-datasheet-275337.pdf?src-supplier=Mouser; ComponentLink3URL: http://components.arrow.com/part/dataview/0323_07137603?src-supplier=Arrow+Europe; ComponentLink3Description: http://components.arrow.com/part/dataview/0323_07137603?src-supplier=Arrow+Europe; Supplier Part Number 1: 1473-1239-1-ND; ClassName: MCU
footprint XTAL4_SiT1533_SIT
pins: 1 NC, 2 GND (power), 3 CLK (out), 4 VDD (power)

## IC SPH0641LM4H-1 MORELLO MIC MULTIMODE DGT BOT PT
designator U?, comment SPH0641LM4H-1
100 Hz ~ 10 kHz Microphone 1.62 V ~ 3.6 V (); Manufacturer: Infineon; Shape: Rectangular; Output Type: Digital; Direction: Omnidirectional; Operating Supply Current: 700 uA; Supplier 1: Digi-Key; Manufacturer Part Number: SPH0641LM4H-1; Stock 1: 16861; Packaging: Cut Tape; Termination: Solder; Lead Free: Lead Free; Halogen Free: Halogen Free; RoHS Compliant: Yes; ComponentLink1URL: https://www.digikey.com/en/products/detail/knowles/SPH0641LM4H-1/5052769?s=N4IgTCBcDaIMoAUASAGAbAFgIwBkCyGSAtFiALoC%2BQA; ComponentLink1Description: https://www.digikey.com/en/products/detail/knowles/SPH0641LM4H-1/5052769?s=N4IgTCBcDaIMoAUASAGAbAFgIwBkCyGSAtFiALoC%2BQA; Supplier Part Number 1: 423-1395-1-ND
footprint MIC_SPH0641LM4H-1
pins: 1 DATA (hiz), 2 L/R (in), 3 GND (power), 4 CLK (in), 5 VDD (power)

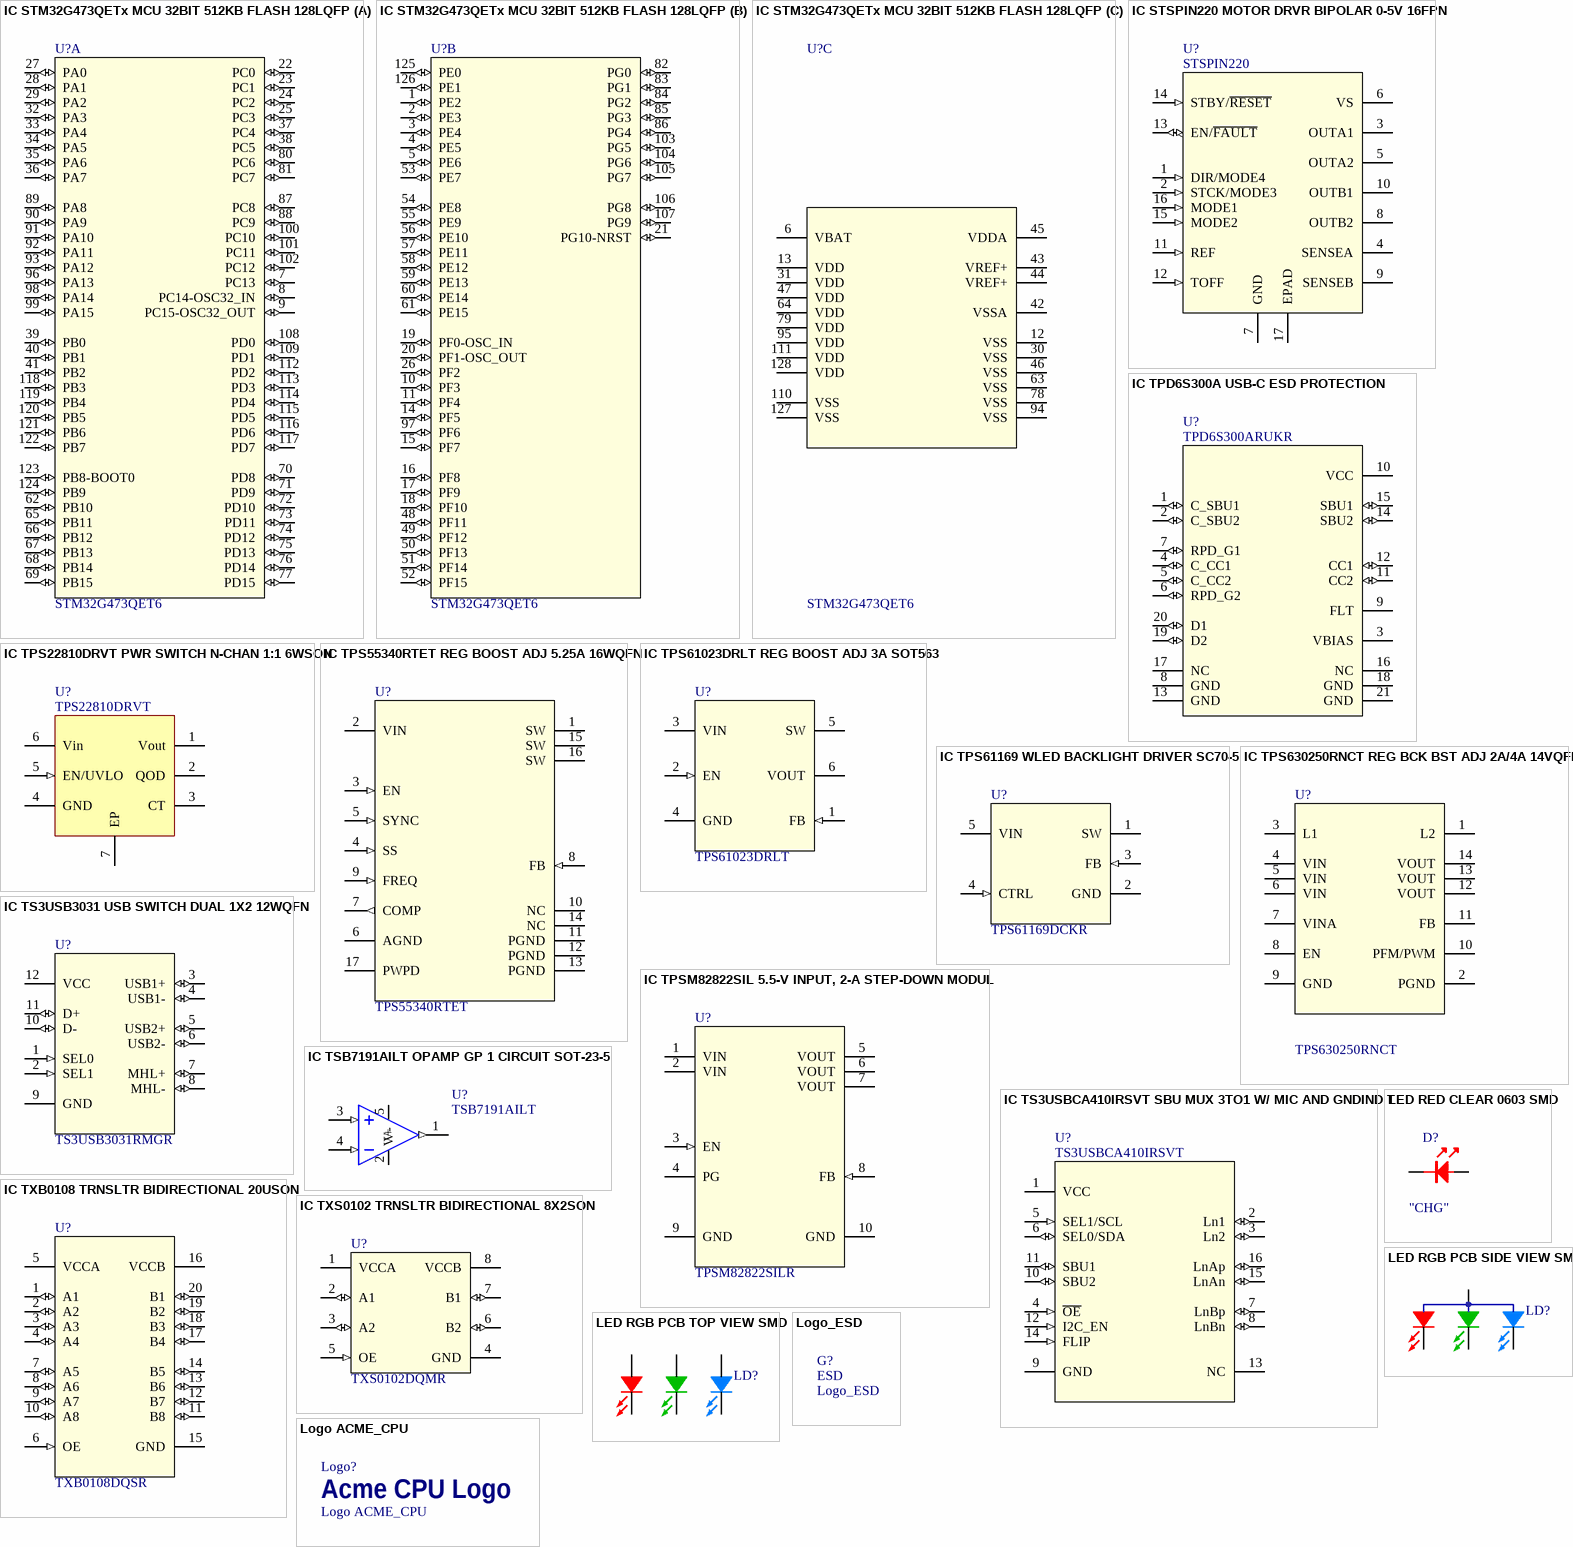
[diagram p4: symbols IC STM32G473QETx MCU 32BIT 512KB FLASH 128LQFP to Logo_ESD]

## IC STM32G473QETx MCU 32BIT 512KB FLASH 128LQFP
designator U?, comment STM32G473QET6
ARM® Cortex®-M4 STM32G4 Microcontroller IC 32-Bit 170MHz 512KB (512K x 8) FLASH 128-LQFP (14x14); Manufacturer: STMicroelectronics; Supplier 1: Digi-Key; Manufacturer Part Number: STM32G473QET6; Stock 1: 0; Pricing 1: 540=7.5029 (USD); Supplier Part Number 1: 497-STM32G473QET6-ND
footprint LPQFP-128
part A pins: 7 PC13 (io), 8 PC14-OSC32_IN (io), 9 PC15-OSC32_OUT (io), 22 PC0 (io), 23 PC1 (io), 24 PC2 (io), 25 PC3 (io), 27 PA0 (io), 28 PA1 (io), 29 PA2 (io), 32 PA3 (io), 33 PA4 (io), 34 PA5 (io), 35 PA6 (io), 36 PA7 (io), 37 PC4 (io), 38 PC5 (io), 39 PB0 (io), 40 PB1 (io), 41 PB2 (io), 62 PB10 (io), 65 PB11 (io), 66 PB12 (io), 67 PB13 (io), 68 PB14 (io), 69 PB15 (io), 70 PD8 (io), 71 PD9 (io), 72 PD10 (io), 73 PD11 (io), 74 PD12 (io), 75 PD13 (io), 76 PD14 (io), 77 PD15 (io), 80 PC6 (io), 81 PC7 (io), 87 PC8 (io), 88 PC9 (io), 89 PA8 (io), 90 PA9 (io), 91 PA10 (io), 92 PA11 (io), 93 PA12 (io), 96 PA13 (io), 98 PA14 (io), 99 PA15 (io), 100 PC10 (io), 101 PC11 (io), 102 PC12 (io), 108 PD0 (io), 109 PD1 (io), 112 PD2 (io), 113 PD3 (io), 114 PD4 (io), 115 PD5 (io), 116 PD6 (io), 117 PD7 (io), 118 PB3 (io), 119 PB4 (io), 120 PB5 (io), 121 PB6 (io), 122 PB7 (io), 123 PB8-BOOT0 (io), 124 PB9 (io)
part B pins: 1 PE2 (io), 2 PE3 (io), 3 PE4 (io), 4 PE5 (io), 5 PE6 (io), 10 PF3 (io), 11 PF4 (io), 14 PF5 (io), 15 PF7 (io), 16 PF8 (io), 17 PF9 (io), 18 PF10 (io), 19 PF0-OSC_IN (io), 20 PF1-OSC_OUT (io), 21 PG10-NRST (io), 26 PF2 (io), 48 PF11 (io), 49 PF12 (io), 50 PF13 (io), 51 PF14 (io), 52 PF15 (io), 53 PE7 (io), 54 PE8 (io), 55 PE9 (io), 56 PE10 (io), 57 PE11 (io), 58 PE12 (io), 59 PE13 (io), 60 PE14 (io), 61 PE15 (io), 82 PG0 (io), 83 PG1 (io), 84 PG2 (io), 85 PG3 (io), 86 PG4 (io), 97 PF6 (io), 103 PG5 (io), 104 PG6 (io), 105 PG7 (io), 106 PG8 (io), 107 PG9 (io), 125 PE0 (io), 126 PE1 (io)
part C pins: 6 VBAT (power), 12 VSS (power), 13 VDD (power), 30 VSS (power), 31 VDD (power), 42 VSSA (power), 43 VREF+ (power), 44 VREF+ (power), 45 VDDA (power), 46 VSS (power), 47 VDD (power), 63 VSS (power), 64 VDD (power), 78 VSS (power), 79 VDD (power), 94 VSS (power), 95 VDD (power), 110 VSS (power), 111 VDD (power), 127 VSS (power), 128 VDD (power)

## IC STSPIN220 MOTOR DRVR BIPOLAR 0-5V 16FPN
designator U?, comment STSPIN220
Bipolar Motor Driver Power MOSFET Step/Direction 16-VFQFPN (3x3); Manufacturer: STMicroelectronics; Logic Function: AND; Output Current: 1.3A; Supplier 1: Digi-Key; Manufacturer Part Number: STSPIN220; Stock 1: 3586; Pricing 1: 1=1.62, 10=1.458, 25=1.3752, 100=1.1, 250=0.9625, 500=0.935, 1000=0.7425 (USD); Mount: Surface Mount; Min Operating Temperature: -40°C; Max Operating Temperature: 150°C; Packaging: Cut Tape; ComponentLink1URL: http://www.st.com/content/ccc/resource/technical/document/datasheet/group3/42/7e/5c/90/70/ef/47/95/DM00291865/files/DM00291865.pdf/jcr:content/translations/en.DM00291865.pdf?src-supplier=Digi-Key; ComponentLink1Description: http://www.st.com/content/ccc/resource/technical/document/datasheet/group3/42/7e/5c/90/70/ef/47/95/DM00291865/files/DM00291865.pdf/jcr:content/translations/en.DM00291865.pdf?src-supplier=Digi-Key; ComponentLink2URL: http://www.farnell.com/datasheets/2815804.pdf?src-supplier=Newark; ComponentLink2Description: http://www.farnell.com/datasheets/2815804.pdf?src-supplier=Newark; ComponentLink3URL: http://www.farnell.com/datasheets/2815804.pdf?src-supplier=Farnell; ComponentLink3Description: http://www.farnell.com/datasheets/2815804.pdf?src-supplier=Farnell; Supplier Part Number 1: 497-16602-1-ND
footprint VFQFPN-16_STM
pins: 1 DIR/MODE4 (in), 2 STCK/MODE3 (in), 3 OUTA1 (power), 4 SENSEA (power), 5 OUTA2 (power), 6 VS (power), 7 GND (power), 8 OUTB2 (power), 9 SENSEB (power), 10 OUTB1 (power), 11 REF (in), 12 TOFF (in), 13 EN/~{FAULT} (io), 14 STBY/~{RESET} (in), 15 MODE2 (in), 16 MODE1 (in), 17 EPAD (power)

## IC TPD6S300A USB-C ESD PROTECTION
designator U?, comment TPD6S300ARUKR
USB Type-C™ Port Protector: Short-to-VBUS Overvoltage  and IEC ESD Protection; Manufacturer: Texas Instruments; Speed: Super Speed; Operating Supply Current: 600 mA; Operating Supply Voltage: 3.3 V; Supply Voltage - Max: 3.6 V; Supply Voltage - Min: 2.7 V; Supplier 1: Mouser; Manufacturer Part Number: TPD6S300ARUKR; RoHS: RoHS Compliant; Category: USB Interface IC; Stock 1: 6078; Pricing 1: 1=1.31, 10=1.11, 100=0.852, 500=0.753, 1000=0.594, 3000=0.555, 6000=0.527, 9000=0.507 (USD); Data Rate: -; Package / Case: WQFN-20; Packaging: Cut Tape; Product: USB Protectors; Brand: Texas Instruments; Mounting Style: SMD/SMT; Maximum Operating Temperature: + 85 C; Minimum Operating Temperature: - 40 C; Moisture Sensitive: Yes; Product Type: USB Interface IC; Standard: USB-C 2.0; Standard Pack Qty: 3000; Subcategory: Interface ICs; RoHS - Mouser: Y; Minimum Order Quantity: 1; Reeling: True; Supplier 2: Digi-Key; Supplier Part Number 1: 595-TPD6S300ARUKR; Supplier Part Number 2: 296-51856-1-ND; Series: TPD6S300A; Interface Type: USB; ESD Protection: ESD Protection; Mount: Surface Mount
footprint WQFN20_RUK_TEX
pins: 1 C_SBU1 (io), 2 C_SBU2 (io), 3 VBIAS (power), 4 C_CC1 (io), 5 C_CC2 (io), 6 RPD_G2 (io), 7 RPD_G1 (io), 8 GND, 9 FLT (oc), 10 VCC (power), 11 CC2 (io), 12 CC1 (io), 13 GND, 14 SBU2 (io), 15 SBU1 (io), 16 NC, 17 NC, 18 GND, 19 D2 (io), 20 D1 (io), 21 GND

## IC TPS22810DRVT PWR SWITCH N-CHAN 1:1 6WSON
designator U?, comment TPS22810DRVT
TPS22810, 2.7-18-V, 79-mOhm On-Resistance Load Switch With Thermal Protection; Manufacturer: Texas Instruments; Number of Channels: 1; Interface: On/Off; Fault Protection: Over Temperature; Output Configuration: High Side; Max Output Current: 3A; Supplier 1: Digi-Key; Manufacturer Part Number: TPS22810DRVT; Stock 1: 5029; Pricing 1: 1=0.66, 10=0.581, 25=0.5456, 100=0.4136 (USD); Min Operating Temperature: -40°C; Max Operating Temperature: 105°C; Packaging: Tape and Reel; Number of Outputs: 1; ComponentLink1URL: http://www.ti.com/lit/ds/symlink/tps22810.pdf?src-supplier=Digi-Key; ComponentLink1Description: http://www.ti.com/lit/ds/symlink/tps22810.pdf?src-supplier=Digi-Key; ComponentLink2URL: http://www.ti.com/general/docs/lit/getliterature.tsp?genericPartNumber=TPS22810&fileType=pdf&src-supplier=Farnell; ComponentLink2Description: http://www.ti.com/general/docs/lit/getliterature.tsp?genericPartNumber=TPS22810&fileType=pdf&src-supplier=Farnell; Supplier Part Number 1: 296-46947-1-ND; Mount: Surface Mount
footprint WSON-6 065
pins: 1 Vout (power), 2 QOD, 3 CT, 4 GND (power), 5 EN/UVLO (in), 6 Vin (power), 7 EP

## IC TPS55340RTET REG BOOST ADJ 5.25A 16WQFN
designator U?, comment TPS55340RTET
Boost Switching Regulator IC Positive, Isolation Capable Adjustable 2.9V 1 Output 5.25A (Switch) 16-WFQFN Exposed Pad; Manufacturer: Texas Instruments; Topology: Boost,Flyback,SEPIC; Number of Outputs: 1; Max Input Voltage: 32V; Max Output Voltage: 38V; Output Current: 5A; Switching Frequency: 1.14MHz; Synchronous Rectifier: No; Quiescent Current: 500uA; Supplier 1: Digi-Key; Manufacturer Part Number: TPS55340RTET; Stock 1: 6832; Pricing 1: 1=3.76, 10=3.372, 25=3.1884, 100=2.6215 (USD); Mount: Surface Mount; Number of Pins: 16; Min Operating Temperature: -40°C; Max Operating Temperature: 150°C; Output Type: Adjustable; Packaging: Tape and Reel; Min Input Voltage: 2.9V; Min Output Voltage: 2.9V; ComponentLink1URL: http://www.ti.com/general/docs/lit/getliterature.tsp?genericPartNumber=TPS55340&amp;&amp;fileType=pdf&src-supplier=Newark; ComponentLink1Description: http://www.ti.com/general/docs/lit/getliterature.tsp?genericPartNumber=TPS55340&amp;&amp;fileType=pdf&src-supplier=Newark; Supplier Part Number 1: 296-30530-1-ND; ComponentLink2URL: http://www.ti.com/general/docs/lit/getliterature.tsp?genericPartNumber=TPS55340&&fileType=pdf&src-supplier=Avnet; ComponentLink2Description: http://www.ti.com/general/docs/lit/getliterature.tsp?genericPartNumber=TPS55340&&fileType=pdf&src-supplier=Avnet; Output Voltage: 38V; Max Output Current: 5A; Lead Free: Lead Free; ComponentLink3URL: http://www.farnell.com/datasheets/2019229.pdf?src-supplier=Element14; ComponentLink3Description: http://www.farnell.com/datasheets/2019229.pdf?src-supplier=Element14; ComponentLink4URL: http://www.ti.com/lit/ds/symlink/tps55340.pdf?src-supplier=Avnet+Europe; ComponentLink4Description: http://www.ti.com/lit/ds/symlink/tps55340.pdf?src-supplier=Avnet+Europe; Package Quantity: 1; Length: 3.15mm; Height: 0.72mm; Width: 3.15mm; Radiation Hardening: No; REACH SVHC: No SVHC
footprint RTE0016C
pins: 1 SW (power), 2 VIN (power), 3 EN (in), 4 SS (in), 5 SYNC (in), 6 AGND (power), 7 COMP (out), 8 FB (in), 9 FREQ (in), 10 NC, 11 PGND (power), 12 PGND (power), 13 PGND (power), 14 NC, 15 SW (power), 16 SW (power), 17 PWPD (power)

## IC TPS61023DRLT REG BOOST ADJ 3A SOT563
designator U?, comment TPS61023DRLT
Boost Switching Regulator IC Positive Adjustable 2.2V 1 Output 3A SOT-563, SOT-666; Manufacturer: Texas Instruments; Input Voltage: 0.5 V to 5.5 V; Input Voltage MAX: 5.5 V; Output Current: 3.7 A; Output Voltage: 2.2 V to 5.5 V; Quiescent Current: 0.9 uA; Switching Frequency: 1 MHz; Development Kit: TPS61023EVM-052; Input Voltage MIN: 0.5 V; Product Status: New Product; Supplier 1: Mouser; Manufacturer Part Number: TPS61023DRLT; RoHS: RoHS Compliant; Category: Switching Voltage Regulators; Stock 1: 196; Pricing 1: 1=1.07, 10=0.902, 100=0.693, 250=0.612, 500=0.580, 1000=0.451, 2500=0.429, 5000=0.413, 10000=0.400 (USD); Height: 0.55 mm; Length: 1.6 mm; Number of Outputs: 1 Output; Package / Case: SOT-5X3-6; Packaging: Cut Tape; Series: TPS61023; Width: 1.2 mm; Brand: Texas Instruments; Mounting Style: SMD/SMT; Shutdown: Shutdown; Topology: Boost; Maximum Operating Temperature: + 125 C; Minimum Operating Temperature: - 40 C; Product Type: Switching Voltage Regulators; Standard Pack Qty: 250; Subcategory: PMIC - Power Management ICs; Supply Voltage - Min: 0.5 V; RoHS - Mouser: Y; Minimum Order Quantity: 1; Reeling: True; Supplier 2: Digi-Key; Supplier Part Number 1: 595-TPS61023DRLT; Supplier Part Number 2: 296-TPS61023DRLTCT-ND; Mount: Surface Mount
footprint SOT50P160X60-6N (Footprint not found)
pins: 1 FB (in), 2 EN (in), 3 VIN (power), 4 GND (power), 5 SW (power), 6 VOUT (power)

## IC TPS61169 WLED BACKLIGHT DRIVER SC70-5
designator U?, comment TPS61169DCKR
LED Driver IC 1 Output DC DC Regulator Step-Up (Boost) PWM Dimming 1.8A (Switch) SC-70-5; Manufacturer: Texas Instruments; Number of Outputs: 1; Output Current: 400mA; Output Voltage: 38V; Max Output Current: 2.4A; Switching Frequency: 1.2MHz; Max Input Voltage: 5.5V; Min Input Voltage: 2.7V; Output Type: Frequency; Nominal Input Voltage (DC): 3.6V; Supplier 1: Digi-Key; Manufacturer Part Number: TPS61169DCKR; Stock 1: 112915; Pricing 1: 1=0.9, 10=0.805, 25=0.7644, 100=0.587, 250=0.5187, 500=0.4914, 1000=0.3822 (USD); Case/Package: SC; Number of Pins: 5; Min Operating Temperature: -40°C; Max Operating Temperature: 85°C; Packaging: Tape and Reel; Package Quantity: 3000; Min Output Voltage: 2.7V; Max Output Voltage: 38V; Topology: Boost; Lead Free: Lead Free; REACH SVHC: No SVHC; ComponentLink1URL: http://www.ti.com/general/docs/lit/getliterature.tsp?genericPartNumber=TPS61169&&fileType=pdf&src-supplier=Element14; ComponentLink1Description: http://www.ti.com/general/docs/lit/getliterature.tsp?genericPartNumber=TPS61169&&fileType=pdf&src-supplier=Element14; ComponentLink2URL: http://www.ti.com/general/docs/lit/getliterature.tsp?genericPartNumber=TPS61169&amp;&amp;fileType=pdf&src-supplier=Farnell; ComponentLink2Description: http://www.ti.com/general/docs/lit/getliterature.tsp?genericPartNumber=TPS61169&amp;&amp;fileType=pdf&src-supplier=Farnell; ComponentLink3URL: http://www.ti.com/lit/ds/symlink/tps61169.pdf?src-supplier=Digi-Key; ComponentLink3Description: http://www.ti.com/lit/ds/symlink/tps61169.pdf?src-supplier=Digi-Key; ComponentLink4URL: http://www.ti.com/general/docs/lit/getliterature.tsp?genericPartNumber=TPS61169&&fileType=pdf&src-supplier=Avnet; ComponentLink4Description: http://www.ti.com/general/docs/lit/getliterature.tsp?genericPartNumber=TPS61169&&fileType=pdf&src-supplier=Avnet; Supplier Part Number 1: 296-40821-1-ND; Mount: Surface Mount; Weight: 0.000705oz; Contact Plating: Gold; Number of Channels: 1; Max Supply Voltage: 5.5V; Output Current per Channel: 1.8A; Frequency: 1.2MHz; Max Input Voltage (DC): 5.5V; Dimming: PWM; Length: 2mm; Height: 1.1mm; Width: 1.25mm; ComponentLink5URL: http://www.ti.com/lit/gpn/tps61169?src-supplier=Mouser; ComponentLink5Description: http://www.ti.com/lit/gpn/tps61169?src-supplier=Mouser
footprint DCK0005A_L
pins: 1 SW (power), 2 GND (power), 3 FB (in), 4 CTRL (in), 5 VIN (power)

## IC TPS630250RNCT REG BCK BST ADJ 2A/4A 14VQFN
designator U?, comment TPS630250RNCT
Buck-Boost Switching Regulator IC Positive Adjustable 2.3V 1 Output 2A, 4A 14-VFQFN; Manufacturer: Texas Instruments; ComponentLink1URL: https://www.digikey.be/product-detail/en/texas-instruments/TPS630250RNCT/296-42036-2-ND/5226740; ComponentLink1Description: https://www.digikey.be/product-detail/en/texas-instruments/TPS630250RNCT/296-42036-2-ND/5226740; Supplier 1: Digi-Key; Manufacturer Part Number: TPS630250RNCT; Stock 1: 2595; Pricing 1: 1=2.81, 10=2.523, 25=2.3848, 100=1.961, 250=1.7596, 500=1.696, 1000=1.4098 (USD); Supplier Part Number 1: 296-42036-2-ND
footprint VFQFN-14
pins: 1 L2, 2 PGND, 3 L1, 4 VIN, 5 VIN, 6 VIN, 7 VINA, 8 EN, 9 GND, 10 PFM/PWM, 11 FB, 12 VOUT, 13 VOUT, 14 VOUT

## IC TPSM82822SIL 5.5-V INPUT, 2-A STEP-DOWN MODUL
designator U?, comment TPSM82822SILR
Non-Isolated PoL Module DC DC Converter 1 Output 0.6 ~ 4V    2A 2.4V - 5.5V Input; Manufacturer: Texas Instruments; ComponentLink1URL: https://octopart.com/click/track?ai=10049&ct=datasheets&sig=01db677&at=physicalpart&sid=370&ppid=108054084&hlid=30259078&src-supplier=TI+store; ComponentLink1Description: https://octopart.com/click/track?ai=10049&ct=datasheets&sig=01db677&at=physicalpart&sid=370&ppid=108054084&hlid=30259078&src-supplier=TI+store; Supplier 1: Digi-Key; Manufacturer Part Number: TPSM82822SILR; Stock 1: 2595; Pricing 1: 1=2.81, 10=2.523, 25=2.3848, 100=1.961, 250=1.7596, 500=1.696, 1000=1.4098 (USD); Supplier Part Number 1: 296-TPSM82822SILRCT-ND
footprint SIL0010D (Footprint not found)
pins: 1 VIN (power), 2 VIN (power), 3 EN (in), 4 PG (oc), 5 VOUT (power), 6 VOUT (power), 7 VOUT (power), 8 FB (in), 9 GND (power), 10 GND (power)

## IC TS3USB3031 USB SWITCH DUAL 1X2 12WQFN
designator U?, comment TS3USB3031RMGR
USB Switch IC 1 Channel 12-WQFN (1.8x1.8); Manufacturer: Texas Instruments; Bandwidth: 6.5 GHz; Configuration: 1 x DP3T; Off Time - Max: 0.1 ns; On Resistance - Max: 7 Ohms; On Time - Max: 100 us; Development Kit: TS3USB3031EVM; Number of Switches: 2 Switch; Operating Supply Current: 40 uA; Operating Supply Voltage: 2.5 V; Supply Voltage - Max: 4.3 V; Switch Continuous Current: 60 mA; Supplier 1: Mouser; Manufacturer Part Number: TS3USB3031RMGR; RoHS: RoHS Compliant; Category: USB Switch ICs; Stock 1: 14547; Pricing 1: 1=1.16, 10=0.980, 100=0.753, 250=0.666, 500=0.630, 1000=0.490, 3000=0.466, 6000=0.448, 9000=0.434 (USD); Package / Case: WQFN-12; Packaging: Cut Tape; Product: USB 2.0, MHL, MyDP Switches; Series: TS3USB3031; Brand: Texas Instruments; Mounting Style: SMD/SMT; Maximum Operating Temperature: + 85 C; Minimum Operating Temperature: - 40 C; Product Type: USB Switch ICs; Standard Pack Qty: 3000; Subcategory: Switch ICs; Supply Voltage - Min: 2.5 V; RoHS - Mouser: Y; Minimum Order Quantity: 1; Reeling: True; ComponentLink1URL: https://www.ti.com/lit/gpn/ts3usb3031; ComponentLink1Description: Data sheet; Supplier 2: Digi-Key; Supplier Part Number 1: 595-TS3USB3031RMGR; Supplier Part Number 2: 296-41018-1-ND; Mount: Surface Mount
footprint RMG12_TEX
pins: 1 SEL0 (in), 2 SEL1 (in), 3 USB1+ (io), 4 USB1- (io), 5 USB2+ (io), 6 USB2- (io), 7 MHL+ (io), 8 MHL- (io), 9 GND (power), 10 D- (io), 11 D+ (io), 12 VCC (power)

## IC TS3USBCA410IRSVT SBU MUX 3TO1 W/ MIC AND GNDIND T
designator U?, comment TS3USBCA410IRSVT
USB Switch IC 1 Channel 16-UQFN (2.6x1.8); Manufacturer: Texas Instruments; Number of Channels: 3; Supplier 1: Digi-Key; Manufacturer Part Number: TS3USBCA410IRSVT; Stock 1: 250; Pricing 1: 1=1.07, 10=0.959, 25=0.91, 100=0.6988 (USD); ComponentLink1URL: https://www.ti.com/lit/gpn/ts3usbca4; ComponentLink1Description: Datasheet; Supplier Part Number 1: 296-52158-1-ND; Min Operating Temperature: -40°C; Max Operating Temperature: 85°C; Mount: Surface Mount
footprint RSV16_TEX
pins: 1 VCC (power), 2 Ln1 (io), 3 Ln2 (io), 4 ~{OE} (in), 5 SEL1/SCL (in), 6 SEL0/SDA (io), 7 LnBp (io), 8 LnBn (io), 9 GND (power), 10 SBU2 (io), 11 SBU1 (io), 12 I2C_EN (in), 13 NC, 14 FLIP (in), 15 LnAn (io), 16 LnAp (io)

## IC TSB7191AILT OPAMP GP 1 CIRCUIT SOT-23-5
designator U?, comment TSB7191AILT
General Purpose Amplifier 1 Circuit Rail-to-Rail SOT-23-5; Manufacturer: STMicroelectronics; Min Supply Voltage: 2.7V; Max Supply Voltage: 36V; Min Dual Supply Voltage: 1.35V; Max Dual Supply Voltage: 18V; Voltage Gain: 130dB; Output Current: 25mA; Nominal Supply Current: 475uA; Unity Gain Bandwidth Product: 22MHz; Common Mode Rejection Ratio: 104dB; Number of Channels: 1; Slew Rate: 12V/µs; Max I/O Voltage: 1.8mV; Input Bias Current: 15pA; Input Offset Voltage (Vos): 250uV; Output Current per Channel: 35mA; Power Supply Rejection Ratio (PSRR): 120dB; ComponentLink1URL: https://www.digikey.com/en/products/detail/stmicroelectronics/TSB7191AILT/11610868?s=N4IgTCBcDaICoGUBCB2AjATjQQQJIBk4QBdAXyA; ComponentLink1Description: https://www.digikey.com/en/products/detail/stmicroelectronics/TSB7191AILT/11610868?s=N4IgTCBcDaICoGUBCB2AjATjQQQJIBk4QBdAXyA; Supplier 1: Digi-Key; Manufacturer Part Number: TSB7191AILT; Stock 1: 126525; Pricing 1: 1=1.36, 10=1.215, 100=0.9476, 500=0.7828, 1000=0.618 (USD); Case/Package: SOT-23-5; Number of Pins: 5; Min Operating Temperature: -40°C; Max Operating Temperature: 125°C; Package Quantity: 3000; Packaging: Tape and Reel; Nominal Gain Bandwidth Product: 22MHz; Number of Circuits: 1; Gain Bandwidth Product: 22MHz; Operating Supply Current: 475uA; Number of Elements: 1; Bandwidth: 22MHz; Number of Amplifiers: 1; Operating Supply Voltage: 18V; Radiation Hardening: No; REACH SVHC: No SVHC; Lead Free: Lead Free; Supplier Part Number 1: 497-TSB7191AILTTR-ND; Mount: Surface Mount
footprint SOT-23-5
pins: 1 OUT (out), 2 V- (power), 3 IN+ (in), 4 IN- (in), 5 V+ (power)